# Altium footprint library STEM_PCB.PcbLib: 50 footprints (part 3 of 4)
Each footprint in its own frame and in the unit in brackets; x right, y up, seen from the top. Pads: shape width x height; smd on the part's side, far side on the other; paste and mask are expansions set on the pad; w line width, h text height; cw(c..) or ccw(c..) is an arc to the next point about the centre after c.
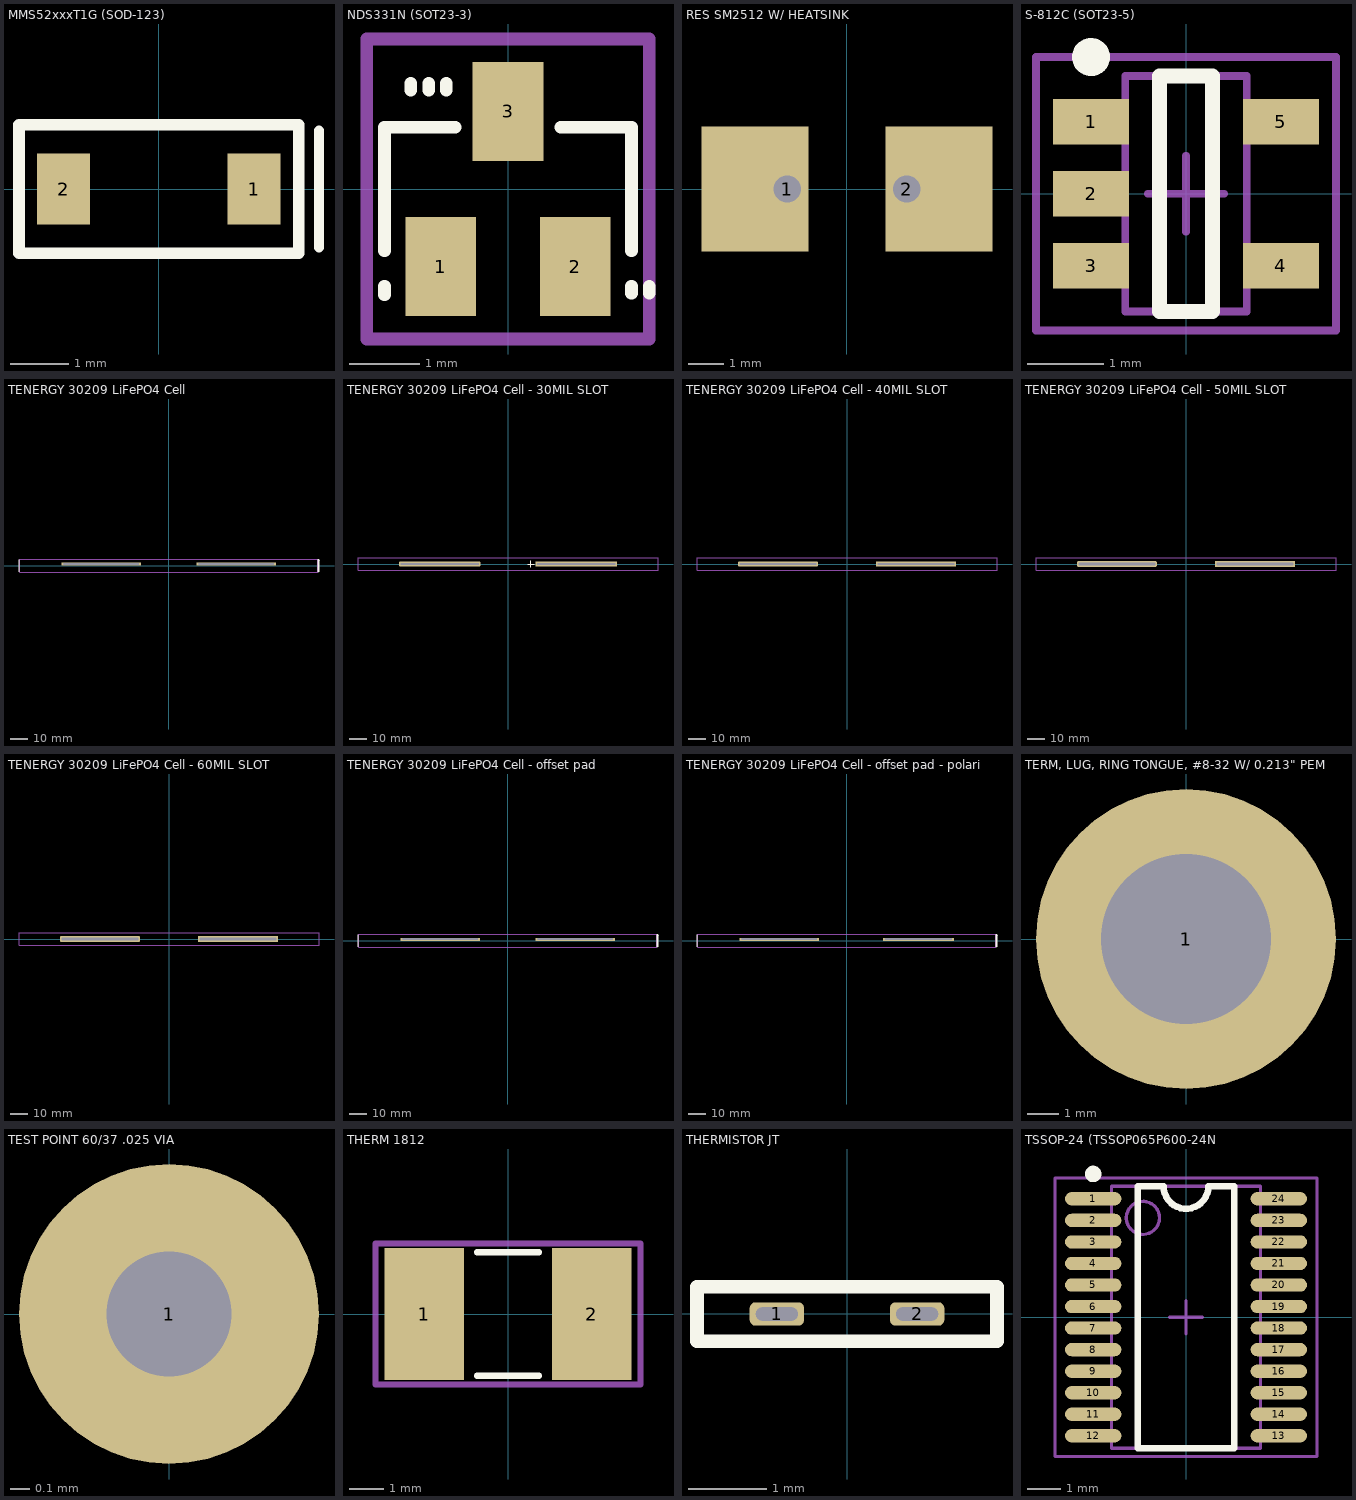
[diagram p2: the footprints below, top view; thin cyan lines are the x and y axes]

## MMS52xxxT1G (SOD-123) [mm]
pads (2):
  rect 0.91x1.22 smd: 1(1.635,0) 2(-1.635,0)
Top Overlay:
  lines w0.178: 2.75,-1 2.75,1
  lines w0.2: -2.4,-1.1 -2.4,1.1 2.4,1.1 2.4,-1.1 -2.4,-1.1
3D body: height 1.35, standoff 0, extent -1.4,-0.9 1.4,0.9
3D body: height 0.15, standoff 0, extent -1.925,-0.35 -1.4,0.35
3D body: height 0.15, standoff 0, extent 1.4,-0.35 1.925,0.35

## NDS331N (SOT23-3) [mm] "SOT-23 for NDS331N"
pads (3):
  rect 1x1.4 smd: 1(-0.95,-1.1) 2(0.95,-1.1) 3(0,1.1)
Top Overlay:
  lines w0.178: -1.75,-1.5 -1.75,-1.375 ; -1.75,-0.875 -1.75,0.875 -0.75,0.875 ; -1.375,1.4 -1.375,1.5 ; -1.125,1.4 -1.125,1.5 ; -0.875,1.4 -0.875,1.5 ; 0.75,0.875 1.75,0.875 1.75,-0.875 ; 1.75,-1.475 1.75,-1.375 ; 2,-1.475 2,-1.375
Mechanical 15:
  lines w0.178: -2,-2.125 -2,2.125 2,2.125 2,-2.125 -2,-2.125
3D body: height 1.2, standoff 0.05, extent -1.5,-0.7 1.5,0.7
3D body: height 0.25, standoff 0, extent -0.25,0.7 0.25,1.325
3D body: height 0.25, standoff 0, extent -1.2,-1.325 -0.7,-0.7
3D body: height 0.25, standoff 0, extent 0.7,-1.325 1.2,-0.7

## RES SM2512 W/ HEATSINK [mm]
height 0.7
pads (2):
  rect 3x3.5 / inner rect 0x0 / far side rect 3x3.5 hole 0.762 copper offset -0.9,0 paste-5 mask-5: 1(-1.675,0)
  rect 3x3.5 / inner rect 0x0 / far side rect 3x3.5 hole 0.762 copper offset 0.9,0 paste-5 mask-5: 2(1.675,0)
Top Paste:
  region: 4.075,1.725 2.5,1.725 2.5,-1.725 4.075,-1.725
  rectangle: -4.075,-1.725 -2.5,1.725
Top Solder:
  region: 4.2,1.85 2.5,1.85 2.5,-1.85 4.2,-1.85
  rectangle: -4.2,-1.85 -2.5,1.85
Bottom Solder:
  rectangle: -4.2,-1.85 -1,1.85
  rectangle: 1,-1.85 4.2,1.85
3D body: height 0.7, standoff 0, extent -2.55,-1.6 2.55,1.6
3D body: height 0.7, standoff 0, extent -3.35,-1.6 -2.55,1.6
3D body: height 0.7, standoff 0, extent 2.55,-1.6 3.35,1.6

## S-812C (SOT23-5) [mm]
height 1.3
pads (5):
  rect 1x0.6 smd: 1(-1.25,0.95) 2(-1.25,0) 3(-1.25,-0.95) 4(1.25,-0.95) 5(1.25,0.95)
Top Overlay:
  circle w0.25: c-1.25,1.8 r0.125
  lines w0.2: -0.35,-1.55 0.35,-1.55 0.35,1.55 -0.35,1.55 -0.35,-1.55
Mechanical 13:
  lines w0.1: -0.8,-1.55 -0.8,1.55 0.8,1.55 0.8,-1.55 -0.8,-1.55
Mechanical 15:
  lines w0.1: -0.5,0 0.5,0 ; 0,-0.5 0,0.5 ; -1.975,-1.8 -1.975,1.8 1.975,1.8 1.975,-1.8 -1.975,-1.8
3D body: height 1.3, standoff 0, extent -0.8,-1.55 0.8,1.55
3D body: height 0.22, standoff 0, extent -1.5,0.7 -0.8,1.2
3D body: height 0.22, standoff 0, extent -1.5,-0.25 -0.8,0.25
3D body: height 0.22, standoff 0, extent -1.5,-1.2 -0.8,-0.7
3D body: height 0.22, standoff 0, extent 0.825,-1.2 1.525,-0.7
3D body: height 0.22, standoff 0, extent 0.825,0.7 1.525,1.2
3D body: height 1.33, standoff 0.03, extent -0.672,0.626 0.025,1.324

## TENERGY 30209 LiFePO4 Cell [mm]
height 253
pads (2):
  rect 46.45x2 hole 1 slot 43.942 at 0 deg: 1(39.37,1)
  rrect50% 46.45x2 hole 1 slot 43.942 at 0 deg: 2(-39.37,1)
Top Overlay:
  lines w0.178: -87.3,-3.625 -87.3,3.625 ; 87.275,-3.6 87.775,-3.1 87.775,3.2 87.275,3.7 87.275,-3.6
Bottom Overlay:
  lines w0.178: 64.375,1 67.2,1 ; 65.8,-0.45 65.8,2.375
Mechanical 15:
  lines w0.178: -87,-3.9 -87,3.9 87,3.9 87,-3.9 -87,-3.9
3D body: height 1.25, standoff -12.5, extent -59.307,0.9 -19.432,1.1
3D body: height 248.01, standoff 12.5, extent -87,-3.6 87,3.6
3D body: height 1.25, standoff -12.5, extent 19.433,0.9 59.308,1.1

## TENERGY 30209 LiFePO4 Cell - 30MIL SLOT [mm]
height 253
pads (2):
  rect 47.45x2.738 hole 0.762 slot 45.45 at 0 deg: 1(39.569,0)
  rrect50% 47.45x2.738 hole 0.762 slot 45.45 at 0 deg: 2(-39.569,0)
Top Overlay:
  lines w0.5: 11.43,0 15.24,0 ; 13.335,-1.778 13.335,1.905
Mechanical 15:
  lines w0.178: -87,-3.683 -87,3.683 87,3.683 87,-3.683 -87,-3.683
3D body: height 1.25, standoff -12.5, extent -60.006,-0.1 -20.131,0.1
3D body: height 248.01, standoff 12.5, extent -87,-3.683 87,3.683
3D body: height 1.25, standoff -12.5, extent 20.131,-0.1 60.006,0.1

## TENERGY 30209 LiFePO4 Cell - 40MIL SLOT [mil] "Obsolete"
height 9960.63
pads (2):
  rect 1828.74x117.8 hole 40 slot 1750 at 0 deg: 1(1577.5,0)
  rrect50% 1828.74x117.8 hole 40 slot 1750 at 0 deg: 2(-1577.5,0)
Mechanical 15:
  lines w7.01: -3425.2,-145 -3425.2,145 3425.2,145 3425.2,-145 -3425.2,-145
3D body: height 49.21, standoff -492.13, extent 792.56,-3.93 2362.44,3.94
3D body: height 9764, standoff 492.13, extent -3425.2,-145 3425.2,145
3D body: height 49.21, standoff -492.13, extent -2362.44,-3.93 -792.55,3.94

## TENERGY 30209 LiFePO4 Cell - 50MIL SLOT [mm] "Obsolete"
height 253
pads (2):
  rect 46.45x3.246 hole 1.27 slot 44.45 at 0 deg: 1(40.069,0)
  rrect50% 46.45x3.246 hole 1.27 slot 44.45 at 0 deg: 2(-40.069,0)
Bottom Overlay:
  lines w0.178: 75.526,0.06 78.351,0.06 ; 76.951,-1.39 76.951,1.435
  text ".050\"" at 75.514,-0.533 h1.91
Mechanical 15:
  lines w0.178: -87,-3.683 -87,3.683 87,3.683 87,-3.683 -87,-3.683
3D body: height 1.25, standoff -12.5, extent 20.131,-0.1 60.006,0.1
3D body: height 1.25, standoff -12.5, extent -60.006,-0.1 -20.131,0.1
3D body: height 248.01, standoff 12.5, extent -87,-3.683 87,3.683

## TENERGY 30209 LiFePO4 Cell - 60MIL SLOT [mm] "Obsolete"
height 253
pads (2):
  rect 46.45x3.5 hole 1.524 slot 44.45 at 0 deg: 1(40.069,0)
  rrect50% 46.45x3.5 hole 1.524 slot 44.45 at 0 deg: 2(-40.069,0)
Bottom Overlay:
  lines w0.178: 75.526,0.06 78.351,0.06 ; 76.951,-1.39 76.951,1.435
  text ".060\"" at 75.489,-0.61 h1.91
Mechanical 15:
  lines w0.178: -87,-3.683 87,-3.683 87,3.683 -87,3.683 -87,-3.683
3D body: height 1.25, standoff -12.5, extent -60.006,-0.1 -20.131,0.1
3D body: height 248.01, standoff 12.5, extent -87,-3.683 87,3.683
3D body: height 1.25, standoff -12.5, extent 20.131,-0.1 60.006,0.1

## TENERGY 30209 LiFePO4 Cell - offset pad [mm] "Obsolete"
height 253
pads (2):
  rect 46.45x2 hole 1 slot 43.942 at 0 deg copper offset 0,-0.3: 1(39.37,1)
  rrect50% 46.45x2 hole 1 slot 43.942 at 0 deg copper offset 0,-0.3: 2(-39.37,1)
Top Overlay:
  lines w0.178: -87.3,-3.625 -87.3,3.625 ; 87.275,-3.6 87.275,3.7 87.775,3.2 87.775,-3.1 87.275,-3.6
Bottom Overlay:
  lines w0.178: 64.375,1 67.2,1 ; 65.8,-0.45 65.8,2.375
Mechanical 15:
  lines w0.178: -87,-3.9 87,-3.9 87,3.9 -87,3.9 -87,-3.9
3D body: height 1.25, standoff -12.5, extent 19.433,0.9 59.308,1.1
3D body: height 248.01, standoff 12.5, extent -87,-3.6 87,3.6
3D body: height 1.25, standoff -12.5, extent -59.307,0.9 -19.432,1.1

## TENERGY 30209 LiFePO4 Cell - offset pad - polarized [mm] "Obsolete"
height 253
pads (2):
  rect 41.45x2 hole 1 slot 38.942 at 0 deg copper offset 0,-0.3: 1(41.87,1)
  rrect50% 46.45x2 hole 1 slot 43.942 at 0 deg copper offset 0,-0.3: 2(-39.37,1)
Top Overlay:
  lines w0.178: -87.3,-3.625 -87.3,3.625 ; 87.275,-3.6 87.775,-3.1 87.775,3.2 87.275,3.7 87.275,-3.6
Bottom Overlay:
  lines w0.178: 64.375,1 67.2,1 ; 65.8,-0.45 65.8,2.375
Mechanical 15:
  lines w0.178: -87,-3.9 -87,3.9 87,3.9 87,-3.9 -87,-3.9
3D body: height 1.25, standoff -12.5, extent -59.307,0.9 -19.432,1.1
3D body: height 248.01, standoff 12.5, extent -87,-3.6 87,3.6
3D body: height 1.25, standoff -12.5, extent 24.425,0.9 59.308,1.1

## TERM, LUG, RING TONGUE, #8-32 W/ 0.213" PEM [mil]
pads (1):
  round 375 hole 213: 1(0,0)
3D body: height -30, standoff -90, extent -115.58,-116.27 116.5,116.27
3D body: height -90, standoff -160, extent -138.89,-139.72 140,139.73
3D body: height -29, standoff -161, extent -69.45,-69.87 70,69.86

## TEST POINT 60/37 .025 VIA [mil]
pads (1):
  round 60 / inner round 0 / far side round 37 hole 25: 1(0,0)

## THERM 1812 [mil]
height 50
pads (2):
  rect 90x150 smd: 1(-95,0) 2(95,0)
Top Overlay:
  lines w7: -35,-70 35,-70 ; -35,70 35,70
Mechanical 15:
  lines w7: -150,-80 150,-80 150,80 -150,80 -150,-80
3D body: height 50, standoff 0, extent 60,-65 110,65
3D body: height 50, standoff 0, extent -110,-65 -60,65
3D body: height 50, standoff 5, extent -60,-65 60,65

## THERMISTOR JT [mm]
height 100
pads (2):
  rrect50% 0.7x0.3 hole 0.17 slot 0.54 at 0 deg: 1(-0.9,0) 2(0.9,0)
Top Overlay:
  lines w0.178: -1.925,-0.35 -1.925,0.35 1.925,0.35 1.925,-0.35 -1.925,-0.35
3D body: height 5, standoff -5, extent 0.7,-0.05 1.125,0.05
3D body: height 5, standoff -5, extent -1.125,-0.05 -0.7,0.05
3D body: height 95, standoff 0, extent -1.825,-0.25 1.825,0.25

## TSSOP-24 (TSSOP065P600-24N [mm]
height 1.2
pads (24):
  oval 1.7x0.4 smd: 1(-2.8,3.575) 2(-2.8,2.925) 3(-2.8,2.275) 4(-2.8,1.625) 5(-2.8,0.975) 6(-2.8,0.325) 7(-2.8,-0.325) 8(-2.8,-0.975) 9(-2.8,-1.625) 10(-2.8,-2.275) 11(-2.8,-2.925) 12(-2.8,-3.575) 13(2.8,-3.575) 14(2.8,-2.925) 15(2.8,-2.275) 16(2.8,-1.625) 17(2.8,-0.975) 18(2.8,-0.325) 19(2.8,0.325) 20(2.8,0.975) 21(2.8,1.625) 22(2.8,2.275) 23(2.8,2.925) 24(2.8,3.575)
Top Overlay:
  circle w0.25: c-2.8,4.325 r0.125
  lines w0.2: -1.45,-3.95 -1.45,3.95 -0.675,3.95 ccw(c0,3.95) 0.675,3.95 1.45,3.95 1.45,-3.95 -1.45,-3.95
Mechanical 13:
  circle w0.1: c-1.3,3 r0.5
  lines w0.1: -2.25,-3.95 -2.25,3.95 2.25,3.95 2.25,-3.95 -2.25,-3.95
Mechanical 15:
  lines w0.1: -0.5,0 0.5,0 ; 0,-0.5 0,0.5 ; -3.95,-4.2 -3.95,4.2 3.95,4.2 3.95,-4.2 -3.95,-4.2
3D body: height 1.2, standoff 0.05, extent -2.25,-3.95 2.25,3.95
3D body: height 0.25, standoff 0, extent -3.35,3.425 -2.25,3.725
3D body: height 0.25, standoff 0, extent -3.35,2.775 -2.25,3.075
3D body: height 0.25, standoff 0, extent -3.35,2.125 -2.25,2.425
3D body: height 0.25, standoff 0, extent -3.35,1.475 -2.25,1.775
3D body: height 0.25, standoff 0, extent -3.35,0.825 -2.25,1.125
3D body: height 0.25, standoff 0, extent -3.35,0.175 -2.25,0.475
3D body: height 0.25, standoff 0, extent -3.35,-0.475 -2.25,-0.175
3D body: height 0.25, standoff 0, extent -3.35,-1.125 -2.25,-0.825
3D body: height 0.25, standoff 0, extent -3.35,-1.775 -2.25,-1.475
3D body: height 0.25, standoff 0, extent -3.35,-2.425 -2.25,-2.125
3D body: height 0.25, standoff 0, extent -3.35,-3.075 -2.25,-2.775
3D body: height 0.25, standoff 0, extent -3.35,-3.725 -2.25,-3.425
3D body: height 0.25, standoff 0, extent 2.25,-3.725 3.35,-3.425
3D body: height 0.25, standoff 0, extent 2.25,-3.075 3.35,-2.775
3D body: height 0.25, standoff 0, extent 2.25,-2.425 3.35,-2.125
3D body: height 0.25, standoff 0, extent 2.25,-1.775 3.35,-1.475
3D body: height 0.25, standoff 0, extent 2.25,-1.125 3.35,-0.825
3D body: height 0.25, standoff 0, extent 2.25,-0.475 3.35,-0.175
3D body: height 0.25, standoff 0, extent 2.25,0.175 3.35,0.475
3D body: height 0.25, standoff 0, extent 2.25,0.825 3.35,1.125
3D body: height 0.25, standoff 0, extent 2.25,1.475 3.35,1.775
3D body: height 0.25, standoff 0, extent 2.25,2.125 3.35,2.425
3D body: height 0.25, standoff 0, extent 2.25,2.775 3.35,3.075
3D body: height 0.25, standoff 0, extent 2.25,3.425 3.35,3.725